# EAGLE library part TPS63021DSJR (library TPS63021DSJR)
High Efficiency Single Inductor Buck-Boost Converter with 4A Switch Source: Datasheet <http://www.ti.com/lit/gpn/tps63021>
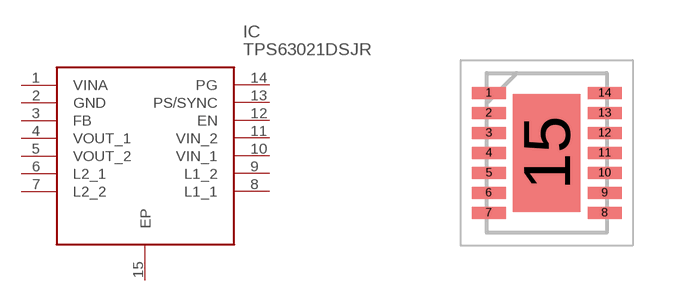
[diagram p0: symbol with the pads of SON50P300X400X100-15N; footprint SON50P300X400X100-15N]

Designator prefix IC

## TPS63021DSJR (Description: High Efficiency Single Inductor Buck-Boost Converter with 4A Switch; Height: 1mm; Manufacturer_Name: Texas Instruments; Manufacturer_Part_Number: TPS63021DSJR; Mouser_Part_Number: 595-TPS63021DSJR; Mouser_Price-Stock: https://www.mouser.co.uk/ProductDetail/Texas-Instruments/TPS63021DSJR?qs=C44r%252BX3hXgL5uT9uesn8fg%3D%3D)  [SON50P300X400X100-15N]
1  VINA
2  GND
3  FB
4  VOUT_1
5  VOUT_2
6  L2_1
7  L2_2
8  L1_1
9  L1_2
10  VIN_1
11  VIN_2
12  EN
13  PS/SYNC
14  PG
15  EP

## Footprint SON50P300X400X100-15N (pad centres in mm)
DSJ (R-PVSON-N14)
smd 0.85 x 0.3: 1 -1.45,1.5; 2 -1.45,1; 3 -1.45,0.5; 4 -1.45,0; 5 -1.45,-0.5; 6 -1.45,-1; 7 -1.45,-1.5; 8 1.45,-1.5; 9 1.45,-1; 10 1.45,-0.5; 11 1.45,0; 12 1.45,0.5; 13 1.45,1; 14 1.45,1.5
smd 1.68 x 2.95: 15 0,0